# Altium schematic symbol library BL8555_SOT23-5A.SchLib: 1 symbol
Pins are listed as number, name and electrical type; pins without a type are passive.

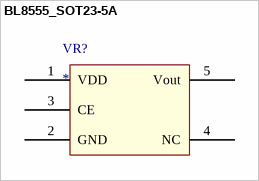
[diagram p0: symbol BL8555_SOT23-5A]

## BL8555_SOT23-5A
designator VR?
pins: 1 VDD, 2 GND, 3 CE, 4 NC, 5 Vout